# Altium footprint library PCBLab1.PcbLib: 2 footprints
Each footprint in its own frame and in the unit in brackets; x right, y up, seen from the top. Pads: shape width x height; smd on the part's side, far side on the other; paste and mask are expansions set on the pad; w line width, h text height; cw(c..) or ccw(c..) is an arc to the next point about the centre after c.
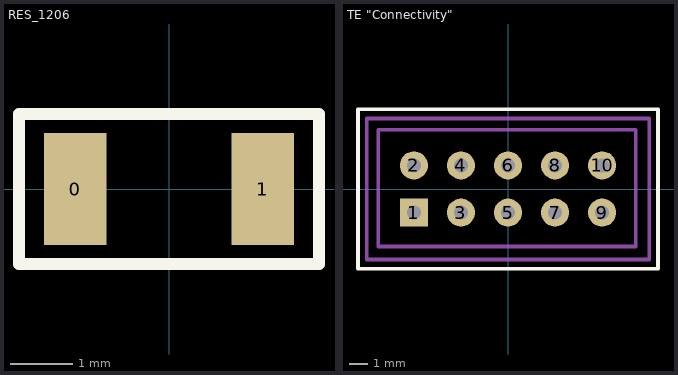
[diagram p0: the footprints below, top view; thin cyan lines are the x and y axes]

## RES_1206 [mm]
pads (2):
  rect 1x1.8 smd: 0(-1.5,0) 1(1.5,0)
Top Overlay:
  lines w0.2: -2.4,-1.2 -2.4,1.2 2.4,1.2 2.4,-1.2 -2.4,-1.2
Mechanical 1:
  lines w0.2: -2.4,-1.2 -2.4,1.2 2.4,1.2 2.4,-1.2 -2.4,-1.2
3D body: height 0.6, standoff 0, extent -1.6,-0.8 1.6,0.8
3D body: height 0.25, standoff 0, extent -2.4,1.2 -2.4,1.2

## TE "Connectivity" [mil]
pads (10):
  rect 60x60 hole 30: 1(-200,-50)
  round 60 hole 30: 2(-200,50) 3(-100,-50) 4(-100,50) 5(0,-50) 6(0,50) 7(100,-50) 8(100,50) 9(200,-50) 10(200,50)
Top Overlay:
  lines w7.87: -318.9,-169.29 318.9,-169.29 318.9,169.29 -318.9,169.29 -318.9,-169.29
Mechanical 1:
  lines w7.87: -300,-150 300,-150 300,150 -300,150 -300,-150 ; -275.59,-122.05 271.65,-122.05 271.65,125.98 -275.59,125.98 -275.59,-122.05
3D body: height 342.52, standoff 0, extent -299.98,-150 299.98,149.96